# Altium footprint library PCB - LEADED - MSOP8_3x3-8N.PCBLIB: 1 footprints
Each footprint in its own frame and in the unit in brackets; x right, y up, seen from the top. Pads: shape width x height; smd on the part's side, far side on the other; paste and mask are expansions set on the pad; w line width, h text height; cw(c..) or ccw(c..) is an arc to the next point about the centre after c.
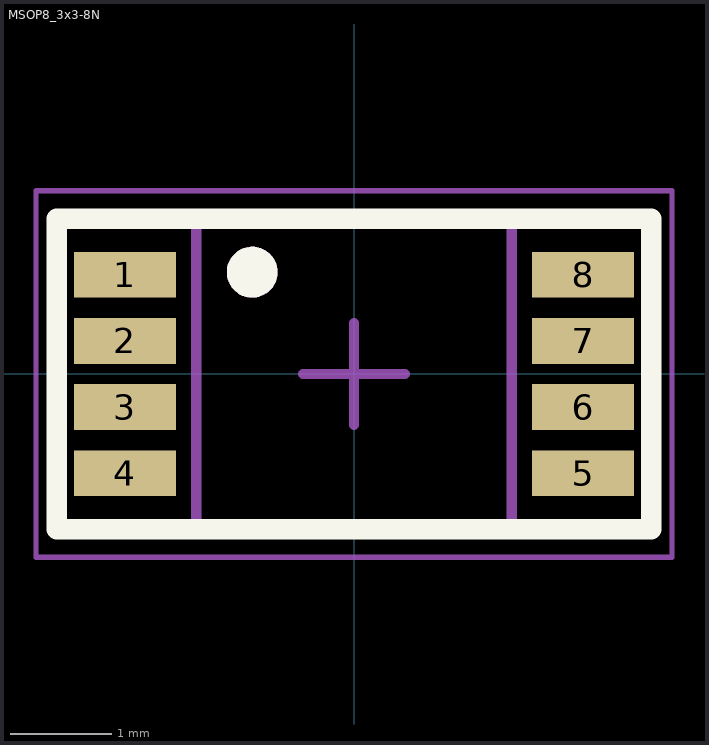
[diagram p0: the footprint, top view; thin cyan lines are the x and y axes]

## MSOP8_3x3-8N [mm] "TSOP, 8-Leads, Body 3,00x3,00mm, Pitch 0,65mm, IPC Medium Density"
height 1
pads (8):
  rect 1x0.45 smd mask+0.051: 1(-2.25,0.975) 2(-2.25,0.325) 3(-2.25,-0.325) 4(-2.25,-0.975) 5(2.25,-0.975) 6(2.25,-0.325) 7(2.25,0.325) 8(2.25,0.975)
Top Overlay:
  circle w0.25: c-1,1 r0.125
  lines w0.2: -2.921,-1.524 2.921,-1.524 2.921,1.524 -2.921,1.524 -2.921,-1.524
Top Assembly:
  circle w0.25: c-1,1 r0.125
  lines w0.1: -1.55,-1.55 1.55,-1.55 1.55,1.55 -1.55,1.55 -1.55,-1.55
Top Courtyard:
  lines w0.05: -3.125,-1.8 3.125,-1.8 3.125,1.8 -3.125,1.8 -3.125,-1.8
Top Designator:
  text ".Designator" at 4.3,0.1 h1
Top Component Center (Mech11):
  lines w0.1: -0.5,0 0.5,0 ; 0,-0.5 0,0.5
Top Value:
  text ".Comment" at 4.3,-1.1 h1
3D body "User Library-MSOP8.STEP": height 1.1, standoff 0, extent -2.469,-1.55 2.469,1.55